# Altium footprint library Chirpwear.PcbLib: 9 footprints
Each footprint in its own frame and in the unit in brackets; x right, y up, seen from the top. Pads: shape width x height; smd on the part's side, far side on the other; paste and mask are expansions set on the pad; w line width, h text height; cw(c..) or ccw(c..) is an arc to the next point about the centre after c.
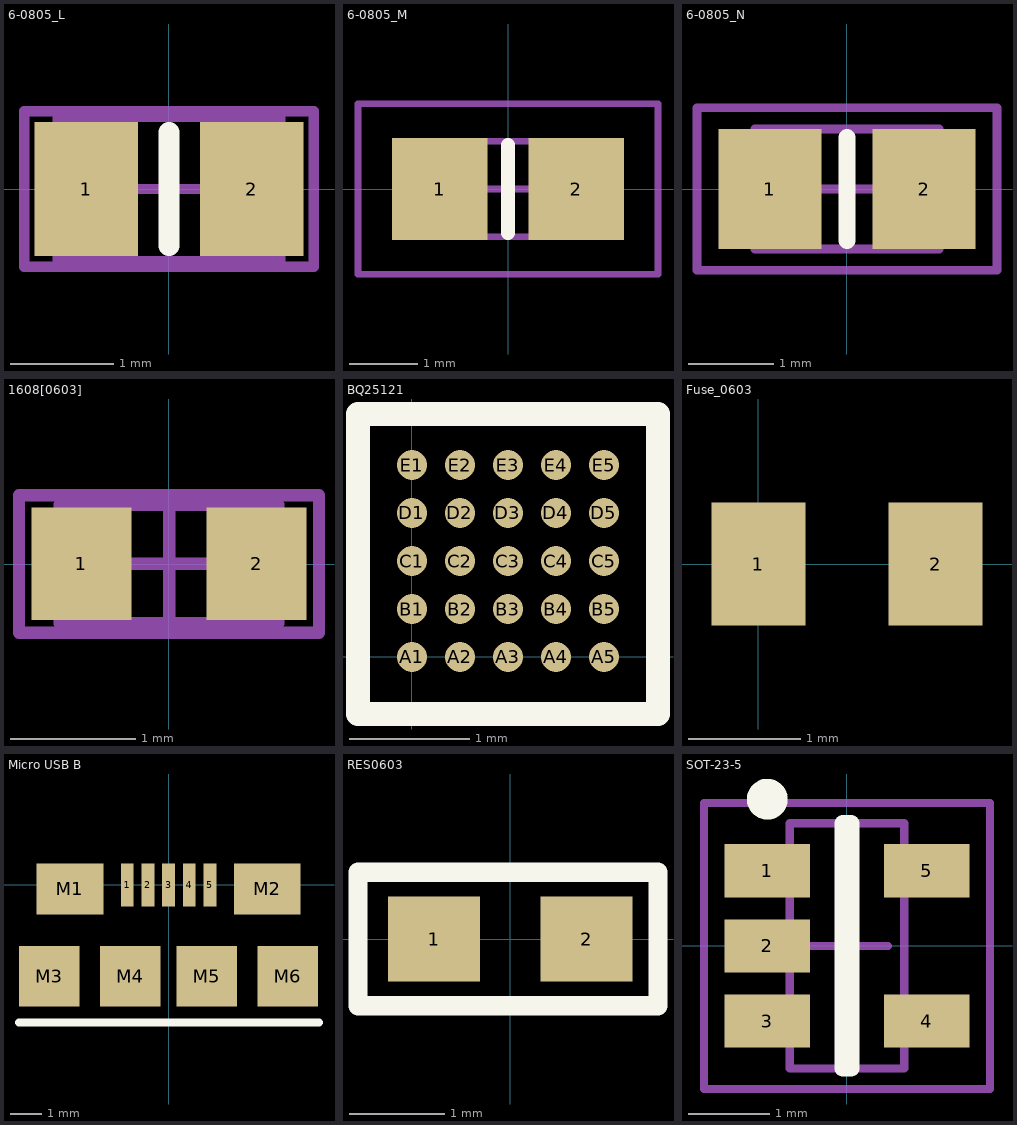
[diagram p0: the footprints below, top view; thin cyan lines are the x and y axes]

## 6-0805_L [mm] "Chip Resistor, Body 2.0x1.2mm, IPC High Density"
height 0.7
pads (2):
  rect 1x1.3 smd: 1(-0.8,0) 2(0.8,0)
Top Overlay:
  lines w0.2: 0,-0.55 0,0.55
Mechanical 13:
  lines w0.1: -1.075,-0.7 -1.075,0.7 1.075,0.7 1.075,-0.7 -1.075,-0.7
Mechanical 15:
  lines w0.1: -0.5,0 0.5,0 ; 0,-0.5 0,0.5 ; -1.4,-0.75 -1.4,0.75 1.4,0.75 1.4,-0.75 -1.4,-0.75
3D body: height 0.7, standoff 0, extent -1.075,-0.7 1.075,0.7

## 6-0805_M [mm] "Chip Resistor, Body 2.0x1.2mm, IPC Low Density"
height 0.7
pads (2):
  rect 1.4x1.5 smd: 1(-1,0) 2(1,0)
Top Overlay:
  lines w0.2: 0,-0.65 0,0.65
Mechanical 13:
  lines w0.1: -1.075,-0.7 -1.075,0.7 1.075,0.7 1.075,-0.7 -1.075,-0.7
Mechanical 15:
  lines w0.1: -0.5,0 0.5,0 ; 0,-0.5 0,0.5 ; -2.2,-1.25 -2.2,1.25 2.2,1.25 2.2,-1.25 -2.2,-1.25
3D body: height 0.7, standoff 0, extent -1.075,-0.7 1.075,0.7

## 6-0805_N [mm] "Chip Resistor, Body 2.0x1.2mm, IPC Medium Density"
height 0.7
pads (2):
  rect 1.2x1.4 smd: 1(-0.9,0) 2(0.9,0)
Top Overlay:
  lines w0.2: 0,-0.6 0,0.6
Mechanical 13:
  lines w0.1: -1.075,-0.7 1.075,-0.7 1.075,0.7 -1.075,0.7 -1.075,-0.7
Mechanical 15:
  lines w0.1: -0.5,0 0.5,0 ; 0,-0.5 0,0.5 ; -1.75,-0.95 1.75,-0.95 1.75,0.95 -1.75,0.95 -1.75,-0.95
3D body: height 0.7, standoff 0, extent -1.075,-0.7 1.075,0.7

## 1608[0603] [mm] "Chip Capacitor, Body 1.6x0.8mm, IPC High Density"
height 1.3
pads (2):
  rect 0.8x0.9 smd: 1(-0.7,0) 2(0.7,0)
Mechanical 13:
  lines w0.1: -0.875,-0.475 -0.875,0.475 0.875,0.475 0.875,-0.475 -0.875,-0.475
Mechanical 15:
  lines w0.1: -0.475,0 0.475,0 ; 0,-0.475 0,0.475 ; -1.2,-0.55 -1.2,0.55 1.2,0.55 1.2,-0.55 -1.2,-0.55
3D body: height 1.3, standoff 0, extent -0.875,-0.475 0.875,0.475

## BQ25121 [mm] "IC BATT CHG LI-ION 25DSBGA"
pads (25):
  round 0.25 all layers, no hole paste+0 mask+0.051: A1(0,0) A2(0.4,0) A3(0.8,0) A4(1.2,0) A5(1.6,0) B1(0,0.4) B2(0.4,0.4) B3(0.8,0.4) B4(1.2,0.4) B5(1.6,0.4) C1(0,0.8) C2(0.4,0.8) C3(0.8,0.8) C4(1.2,0.8) C5(1.6,0.8) D1(0,1.2) D2(0.4,1.2) D3(0.8,1.2) D4(1.2,1.2) D5(1.6,1.2) E1(0,1.6) E2(0.4,1.6) E3(0.8,1.6) E4(1.2,1.6) E5(1.6,1.6)
Top Overlay:
  lines w0.203: -0.45,-0.475 -0.45,2.025 2.05,2.025 2.05,-0.475 -0.45,-0.475

## Fuse_0603 [mil]
pads (2):
  rect 33x43 all layers, no hole: 1(0,0) 2(62,0)

## Micro USB B [mm]
pads (11):
  rect 0.4x1.35 all layers, no hole: 1(-1.3,0) 2(-0.65,0) 3(0,0) 4(0.65,0) 5(1.3,0)
  rect 2.1x1.6 all layers, no hole: M1(-3.1,-0.125) M2(3.1,-0.125)
  rect 1.9x1.9 all layers, no hole: M3(-3.75,-2.875) M4(-1.2,-2.875) M5(1.2,-2.875) M6(3.75,-2.875)
Top Overlay:
  lines w0.254: -4.7,-4.325 4.725,-4.325

## RES0603 [mil]
pads (2):
  rect 38x35 smd: 1(-31.5,0) 2(31.5,0)
Top Overlay:
  lines w8: -62.99,-27.56 61.02,-27.56 61.02,27.56 -62.99,27.56 -62.99,-27.56
3D body: height 18.9, standoff -1.18, extent -31.5,-17 31.5,16.86

## SOT-23-5 [mm] "SOT23, 5-Leads, Body 3.0x2.5mm (max), Pitch 0.92mm, IPC Medium Density"
height 1.1
pads (5):
  rect 1.05x0.65 smd: 1(-0.975,0.92) 2(-0.975,0) 3(-0.975,-0.92) 4(0.975,-0.92) 5(0.975,0.92)
Top Overlay:
  circle w0.25: c-0.975,1.795 r0.125
  lines w0.2: -0.05,-1.5 -0.05,1.5 0.05,1.5 0.05,-1.5 -0.05,-1.5
Mechanical 13:
  lines w0.1: -0.7,-1.5 0.7,-1.5 0.7,1.5 -0.7,1.5 -0.7,-1.5
Mechanical 15:
  lines w0.1: -0.5,0 0.5,0 ; 0,-0.5 0,0.5 ; -1.75,-1.75 1.75,-1.75 1.75,1.75 -1.75,1.75 -1.75,-1.75
3D body: height 1.1, standoff 0.05, extent -0.7,-1.5 0.7,1.5